# Altium schematic symbol library 1188E-1K2-V-T_R.SchLib: 1 symbol
Pins are listed as number, name and electrical type; pins without a type are passive.

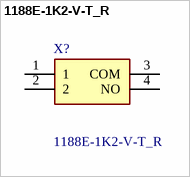
[diagram p0: symbol 1188E-1K2-V-T_R]

## 1188E-1K2-V-T_R
designator X?
Tactile Switches Side Push Type 3.5*7, Contact Rating 50mA, 12VDC; Manufacturer_Name: Diptronics; Manufacturer_Part_Number: 1188E-1K2-V-T/R; Geometry.Height: 3.5mm; Mouser Part Number: 113-1188E1K2VTR; Mouser Price/Stock: https://www.mouser.co.uk/ProductDetail/Diptronics/1188E-1K2-V-T-R?qs=MLItCLRbWswadUUxegNFmg%3D%3D; Datasheet Link: http://www.dip.com.tw/en/en-product-information/en-switch004/item/2445-1188?highlight=WzExODhd
footprint 1188E1K2VTR
pins: 1, 2, 3 COM, 4 NO